# EAGLE library part DRV8840PWP (library DRV8840PWP)
Texas Instruments DRV8840PWP, Full Bridge Motor Driver, DC Motor Driver, 28-Pin HTSSOP <https://componentsearchengine.com/Images/3/DRV8840PWP.jpg> Source: Datasheet <http://www.ti.com/lit/ds/symlink/drv8840.pdf>
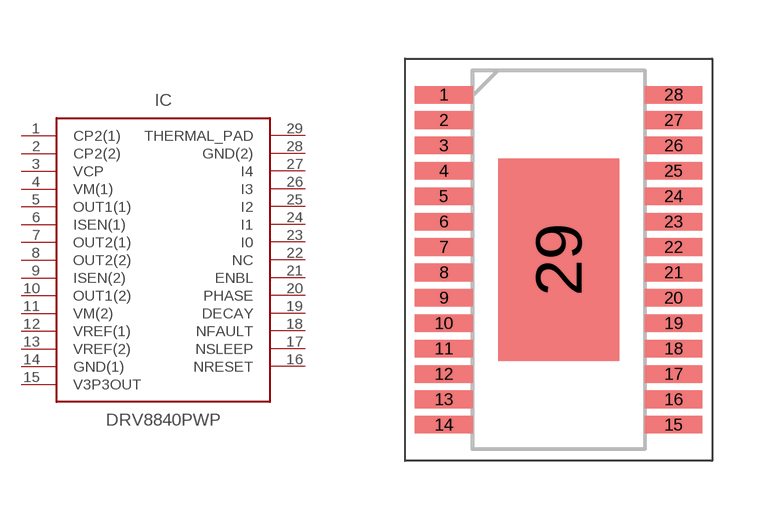
[diagram p0: symbol with the pads of SOP65P640X120-29N; footprint SOP65P640X120-29N]

Designator prefix IC

## DRV8840PWP (Description: Texas Instruments DRV8840PWP, Full Bridge Motor Driver, DC Motor Driver, 28-Pin HTSSOP; Height: 1.2mm; Manufacturer_Name: Texas Instruments; Manufacturer_Part_Number: DRV8840PWP; RS_Part_Number: 7385440; Supplier_Name: RS)  [SOP65P640X120-29N]
1  CP2(1)  pas
2  CP2(2)  pas
3  VCP  pas
4  VM(1)  pas
5  OUT1(1)  pas
6  ISEN(1)  pas
7  OUT2(1)  pas
8  OUT2(2)  pas
9  ISEN(2)  pas
10  OUT1(2)  pas
11  VM(2)  pas
12  VREF(1)  pas
13  VREF(2)  pas
14  GND(1)  pas
15  V3P3OUT  pas
16  NRESET  pas
17  NSLEEP  pas
18  NFAULT  pas
19  DECAY  pas
20  PHASE  pas
21  ENBL  pas
22  NC  nc
23  I0  pas
24  I1  pas
25  I2  pas
26  I3  pas
27  I4  pas
28  GND(2)  pas
29  THERMAL_PAD  pas

## Footprint SOP65P640X120-29N (pad centres in mm)
PWP (R-PDSO-G28)
smd 1.475 x 0.45: 1 -2.938,4.225; 2 -2.938,3.575; 3 -2.938,2.925; 4 -2.938,2.275; 5 -2.938,1.625; 6 -2.938,0.975; 7 -2.938,0.325; 8 -2.938,-0.325; 9 -2.938,-0.975; 10 -2.938,-1.625; 11 -2.938,-2.275; 12 -2.938,-2.925; 13 -2.938,-3.575; 14 -2.938,-4.225; 15 2.938,-4.225; 16 2.938,-3.575; 17 2.938,-2.925; 18 2.938,-2.275; 19 2.938,-1.625; 20 2.938,-0.975; 21 2.938,-0.325; 22 2.938,0.325; 23 2.938,0.975; 24 2.938,1.625; 25 2.938,2.275; 26 2.938,2.925; 27 2.938,3.575; 28 2.938,4.225
smd 3.1 x 5.18: 29 0,0